# Altium footprint library Footprint.PcbLib: 155 footprints (part 2 of 10)
Each footprint in its own frame and in the unit in brackets; x right, y up, seen from the top. Pads: shape width x height; smd on the part's side, far side on the other; paste and mask are expansions set on the pad; w line width, h text height; cw(c..) or ccw(c..) is an arc to the next point about the centre after c.
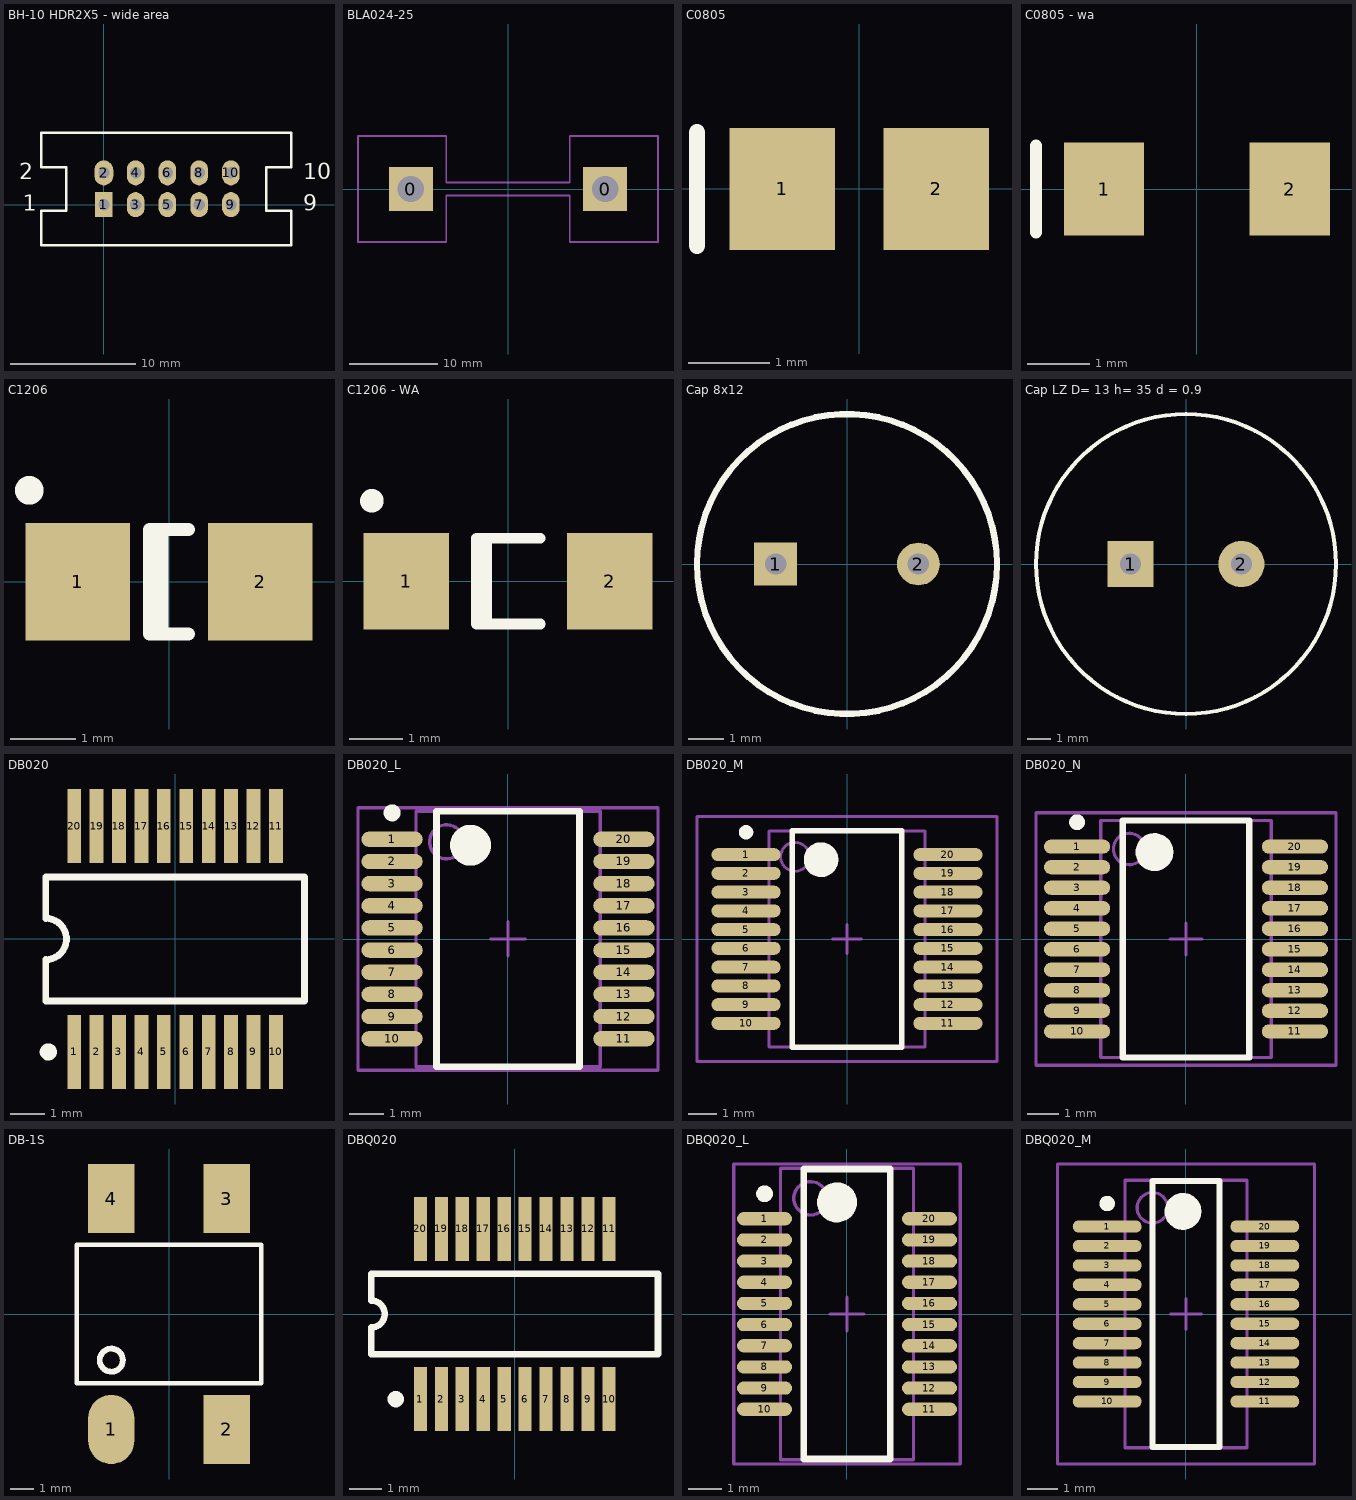
[diagram p1: the footprints below, top view; thin cyan lines are the x and y axes]

## BH-10 HDR2X5 - wide area [mm] "Connector; Header; 5x2 Position"
pads (10):
  rect 1.4x2 hole 0.9: 1(0,0)
  oval 1.5x2 hole 0.9: 2(0,2.54)
  oval 1.4x2 hole 0.9: 3(2.54,0) 4(2.54,2.54) 5(5.08,0) 6(5.08,2.54) 7(7.62,0) 8(7.62,2.54) 9(10.16,0) 10(10.16,2.54)
Top Overlay:
  lines w0.2: -5,-3.25 -5,-0.5 -3,-0.5 -3,3 -5,3 -5,5.75 15,5.75 15,3 13,3 13,-0.5 15,-0.5 15,-3.25 -5,-3.25
  text "2" at -6.79,2.032 h1.27
  text "1" at -6.5,-0.5 h1.27
  text "9" at 15.934,-0.508 h1.27
  text "10" at 15.934,2.032 h1.27

## BLA024-25 [mm] "Радиатор BLA024-25"
pads (2):
  rect 5x5 hole 3: 0(-11,0) 0(11,0)
Mechanical 1:
  lines w0.2: -17,-6 -17,0 -17,6 -7,6 -7,0.75 -0.25,0.75 7,0.75 7,6 17,6 17,0 17,-6 7,-6 7,-0.75 0.25,-0.75 -7,-0.75 -7,-6 -17,-6

## C0805 [mm] "Chip Capacitor; Body 2.0 x 1.2 mm (LxW typ)"
height 1.1
pads (2):
  rect 1.3x1.5 smd: 1(-0.95,0) 2(0.95,0)
Top Overlay:
  lines w0.2: -2,-0.7 -2,0.7

## C0805 - wa [mm] "Chip Capacitor; Body 2.0 x 1.2 mm (LxW typ)"
height 1.1
pads (2):
  rect 1.3x1.5 smd: 1(-1.5,0) 2(1.5,0)
Top Overlay:
  lines w0.2: -2.6,-0.7 -2.6,0.7

## C1206 [mm] "Chip Capacitor; Body 3.2 x 1.6 mm (LxW typ)"
height 1.35
pads (2):
  rect 1.6x1.8 smd: 1(-1.4,0) 2(1.4,0)
Top Overlay:
  circle w0.354: c-2.142,1.4 r0.042
  lines w0.2: -0.11,-0.8 -0.11,0.8 ; 0.3,-0.8 -0.3,-0.8 -0.3,0.8 0.3,0.8

## C1206 - WA [mm] "Led; Body 3.2 x 1.6 mm (LxW typ)"
height 1.35
pads (2):
  rect 1.6x1.8 smd: 1(-1.9,0) 2(1.9,0)
Top Overlay:
  circle w0.354: c-2.542,1.5 r0.042
  lines w0.2: -0.4,-0.8 -0.4,0.8 ; 0.6,-0.8 -0.59,-0.8 -0.59,0.8 0.6,0.8

## Cap 8x12 [mm] "между выводами 4 мм, d =0.6"
pads (2):
  rect 1.2x1.2 hole 0.6: 1(-2,0)
  round 1.2 hole 0.6: 2(2,0)
Top Overlay:
  circle w0.178: c0,0 r4.2

## Cap LZ D= 13 h= 35 d = 0.9 [mm] "между выводами 4.7 мм, d =0.9"
pads (2):
  rect 2x2 hole 0.9: 1(-2.4,0)
  round 2 hole 0.9: 2(2.4,0)
Top Overlay:
  circle w0.178: c0,0 r6.5

## DB020 [mm] "SSOP, Plastic; 20 Leads; Body Width 5.3 mm; Pitch 0.65 mm"
height 2
pads (20):
  rect 0.4x2.15 smd: 1(-2.925,-3.275) 2(-2.275,-3.275) 3(-1.625,-3.275) 4(-0.975,-3.275) 5(-0.325,-3.275) 6(0.325,-3.275) 7(0.975,-3.275) 8(1.625,-3.275) 9(2.275,-3.275) 10(2.925,-3.275) 11(2.925,3.275) 12(2.275,3.275) 13(1.625,3.275) 14(0.975,3.275) 15(0.325,3.275) 16(-0.325,3.275) 17(-0.975,3.275) 18(-1.625,3.275) 19(-2.275,3.275) 20(-2.925,3.275)
Top Overlay:
  circle w0.25: c-3.675,-3.275 r0.125
  lines w0.2: -3.75,-1.8 -3.75,-0.6 ccw(c-3.75,0) -3.75,0.6 -3.75,1.8 3.75,1.8 3.75,-1.8 -3.75,-1.8

## DB020_L [mm] "SOP, 20-Leads, Body 7.2x5.3mm, Pitch 0.65mm, IPC High Density"
height 2
pads (20):
  oval 1.8x0.45 smd: 1(-3.4,2.925) 2(-3.4,2.275) 3(-3.4,1.625) 4(-3.4,0.975) 5(-3.4,0.325) 6(-3.4,-0.325) 7(-3.4,-0.975) 8(-3.4,-1.625) 9(-3.4,-2.275) 10(-3.4,-2.925) 11(3.4,-2.925) 12(3.4,-2.275) 13(3.4,-1.625) 14(3.4,-0.975) 15(3.4,-0.325) 16(3.4,0.325) 17(3.4,0.975) 18(3.4,1.625) 19(3.4,2.275) 20(3.4,2.925)
Top Overlay:
  circle w0.25: c-3.4,3.7 r0.125
  circle w0.6: c-1.1,2.75 r0.3
  lines w0.2: -2.1,-3.75 -2.1,3.75 2.1,3.75 2.1,-3.75 -2.1,-3.75
Mechanical 13:
  circle w0.1: c-1.8,2.85 r0.5
  lines w0.1: -2.7,-3.75 -2.7,3.75 2.7,3.75 2.7,-3.75 -2.7,-3.75
Mechanical 15:
  lines w0.1: -0.5,0 0.5,0 ; 0,-0.5 0,0.5 ; -4.4,-3.85 -4.4,3.85 4.4,3.85 4.4,-3.85 -4.4,-3.85
3D body: height 2, standoff 0, extent -2.7,-3.75 2.7,3.75

## DB020_M [mm] "SOP, 20-Leads, Body 7.2x5.3mm, Pitch 0.65mm, IPC Low Density"
height 2
pads (20):
  oval 2.4x0.45 smd: 1(-3.5,2.925) 2(-3.5,2.275) 3(-3.5,1.625) 4(-3.5,0.975) 5(-3.5,0.325) 6(-3.5,-0.325) 7(-3.5,-0.975) 8(-3.5,-1.625) 9(-3.5,-2.275) 10(-3.5,-2.925) 11(3.5,-2.925) 12(3.5,-2.275) 13(3.5,-1.625) 14(3.5,-0.975) 15(3.5,-0.325) 16(3.5,0.325) 17(3.5,0.975) 18(3.5,1.625) 19(3.5,2.275) 20(3.5,2.925)
Top Overlay:
  circle w0.6: c-0.9,2.75 r0.3
  circle w0.25: c-3.5,3.7 r0.125
  lines w0.2: -1.9,-3.75 1.9,-3.75 1.9,3.75 -1.9,3.75 -1.9,-3.75
Mechanical 13:
  circle w0.1: c-1.8,2.85 r0.5
  lines w0.1: -2.7,-3.75 2.7,-3.75 2.7,3.75 -2.7,3.75 -2.7,-3.75
Mechanical 15:
  lines w0.1: -0.5,0 0.5,0 ; 0,-0.5 0,0.5 ; -5.2,-4.25 5.2,-4.25 5.2,4.25 -5.2,4.25 -5.2,-4.25
3D body: height 2, standoff 0, extent -2.7,-3.75 2.7,3.75

## DB020_N [mm] "SOP, 20-Leads, Body 7.2x5.3mm, Pitch 0.65mm, IPC Medium Density"
height 2
pads (20):
  oval 2.1x0.45 smd: 1(-3.45,2.925) 2(-3.45,2.275) 3(-3.45,1.625) 4(-3.45,0.975) 5(-3.45,0.325) 6(-3.45,-0.325) 7(-3.45,-0.975) 8(-3.45,-1.625) 9(-3.45,-2.275) 10(-3.45,-2.925) 11(3.45,-2.925) 12(3.45,-2.275) 13(3.45,-1.625) 14(3.45,-0.975) 15(3.45,-0.325) 16(3.45,0.325) 17(3.45,0.975) 18(3.45,1.625) 19(3.45,2.275) 20(3.45,2.925)
Top Overlay:
  circle w0.25: c-3.45,3.7 r0.125
  circle w0.6: c-1,2.75 r0.3
  lines w0.2: -2,-3.75 -2,3.75 2,3.75 2,-3.75 -2,-3.75
Mechanical 13:
  circle w0.1: c-1.8,2.85 r0.5
  lines w0.1: -2.7,-3.75 -2.7,3.75 2.7,3.75 2.7,-3.75 -2.7,-3.75
Mechanical 15:
  lines w0.1: -0.5,0 0.5,0 ; 0,-0.5 0,0.5 ; -4.75,-4 -4.75,4 4.75,4 4.75,-4 -4.75,-4
3D body: height 2, standoff 0, extent -2.7,-3.75 2.7,3.75

## DB-1S [mm]
pads (4):
  oval 2x3 smd: 1(-2.5,-5)
  rect 2x3 smd: 2(2.5,-5) 3(2.5,5) 4(-2.5,5)
Top Overlay:
  circle w0.254: c-2.5,-2 r0.5
  lines w0.2: -4,-3 -4,3 4,3 4,-3 -4,-3

## DBQ020 [mm] "SSOP; 20 Leads; Body Width 3.9 mm; Pitch 0.64 mm"
height 1.75
pads (20):
  rect 0.4x1.95 smd: 1(-2.88,-2.6) 2(-2.24,-2.6) 3(-1.6,-2.6) 4(-0.96,-2.6) 5(-0.32,-2.6) 6(0.32,-2.6) 7(0.96,-2.6) 8(1.6,-2.6) 9(2.24,-2.6) 10(2.88,-2.6) 11(2.88,2.6) 12(2.24,2.6) 13(1.6,2.6) 14(0.96,2.6) 15(0.32,2.6) 16(-0.32,2.6) 17(-0.96,2.6) 18(-1.6,2.6) 19(-2.24,2.6) 20(-2.88,2.6)
Top Overlay:
  circle w0.25: c-3.63,-2.6 r0.125
  lines w0.2: -4.375,-1.225 4.375,-1.225 4.375,1.225 -4.375,1.225 -4.375,0.408 cw(c-4.375,0) -4.375,-0.408 -4.375,-1.225

## DBQ020_L [mm] "SOP, 20-Leads, Body 8.7x3.9mm, Pitch 0.635mm, IPC High Density"
height 1.75
pads (20):
  oval 1.65x0.4 smd: 1(-2.475,2.857) 2(-2.475,2.222) 3(-2.475,1.587) 4(-2.475,0.953) 5(-2.475,0.318) 6(-2.475,-0.318) 7(-2.475,-0.953) 8(-2.475,-1.587) 9(-2.475,-2.222) 10(-2.475,-2.857) 11(2.475,-2.857) 12(2.475,-2.222) 13(2.475,-1.587) 14(2.475,-0.953) 15(2.475,-0.318) 16(2.475,0.318) 17(2.475,0.953) 18(2.475,1.587) 19(2.475,2.222) 20(2.475,2.857)
Top Overlay:
  circle w0.6: c-0.3,3.35 r0.3
  circle w0.25: c-2.475,3.608 r0.125
  lines w0.2: -1.3,-4.35 1.3,-4.35 1.3,4.35 -1.3,4.35 -1.3,-4.35
Mechanical 13:
  circle w0.1: c-1.095,3.47 r0.5
  lines w0.1: -1.995,-4.37 1.995,-4.37 1.995,4.37 -1.995,4.37 -1.995,-4.37
Mechanical 15:
  lines w0.1: -0.5,0 0.5,0 ; 0,-0.5 0,0.5 ; -3.4,-4.5 3.4,-4.5 3.4,4.5 -3.4,4.5 -3.4,-4.5
3D body: height 1.75, standoff 0, extent -1.995,-4.37 1.995,4.37

## DBQ020_M [mm] "SOP, 20-Leads, Body 8.7x3.9mm, Pitch 0.635mm, IPC Low Density"
height 1.75
pads (20):
  oval 2.25x0.4 smd: 1(-2.575,2.857) 2(-2.575,2.222) 3(-2.575,1.587) 4(-2.575,0.953) 5(-2.575,0.318) 6(-2.575,-0.318) 7(-2.575,-0.953) 8(-2.575,-1.587) 9(-2.575,-2.222) 10(-2.575,-2.857) 11(2.575,-2.857) 12(2.575,-2.222) 13(2.575,-1.587) 14(2.575,-0.953) 15(2.575,-0.318) 16(2.575,0.318) 17(2.575,0.953) 18(2.575,1.587) 19(2.575,2.222) 20(2.575,2.857)
Top Overlay:
  circle w0.6: c-0.1,3.35 r0.3
  circle w0.25: c-2.575,3.608 r0.125
  lines w0.2: -1.1,-4.35 1.1,-4.35 1.1,4.35 -1.1,4.35 -1.1,-4.35
Mechanical 13:
  circle w0.1: c-1.095,3.47 r0.5
  lines w0.1: -1.995,-4.37 1.995,-4.37 1.995,4.37 -1.995,4.37 -1.995,-4.37
Mechanical 15:
  lines w0.1: -0.5,0 0.5,0 ; 0,-0.5 0,0.5 ; -4.2,-4.9 4.2,-4.9 4.2,4.9 -4.2,4.9 -4.2,-4.9
3D body: height 1.75, standoff 0, extent -1.995,-4.37 1.995,4.37